# EAGLE library part I__4560 (library ..SMD)
NBCD ADDER
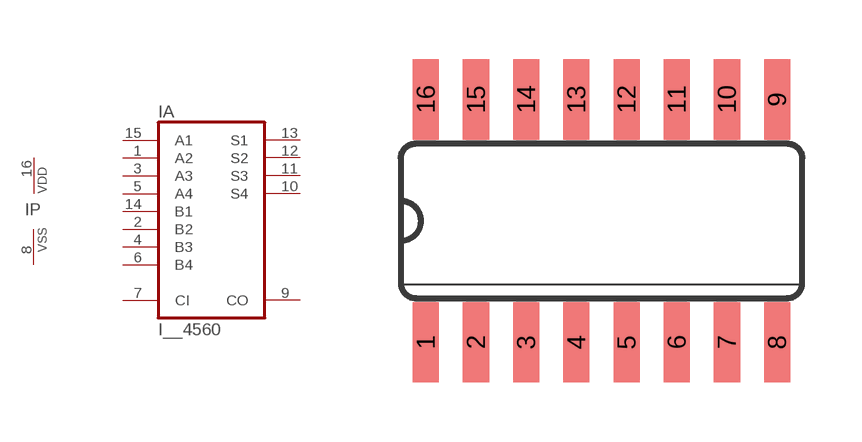
[diagram p133: symbol with the pads of SO16; footprint SO16]

Designator prefix I; gates A=4560 P=PWRN

## I__4560D  [SO16]
1  A:A2  in
2  A:B2  in
3  A:A3  in
4  A:B3  in
5  A:A4  in
6  A:B4  in
7  A:CI  in
8  P:VSS  pwr
9  A:CO  out
10  A:S4  out
11  A:S3  out
12  A:S2  out
13  A:S1  out
14  A:B1  in
15  A:A1  in
16  P:VDD  pwr

## Footprint SO16 (pad centres in mm)
Small Outline Package 16
smd 0.66 x 2.032: 1 -4.445,-3.073; 2 -3.175,-3.073; 3 -1.905,-3.073; 4 -0.635,-3.073; 5 0.635,-3.073; 6 1.905,-3.073; 7 3.175,-3.073; 8 4.445,-3.073; 9 4.445,3.073; 10 3.175,3.073; 11 1.905,3.073; 12 0.635,3.073; 13 -0.635,3.073; 14 -1.905,3.073; 15 -3.175,3.073; 16 -4.445,3.073